# EAGLE library part B6B-EH-A(LF)(SN) (library IGVC-Connector)
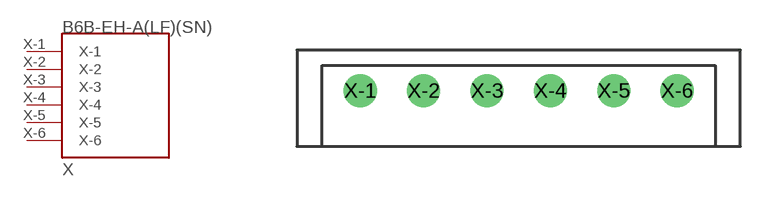
[diagram p0: symbol with the pads of B6BEHALFSN; footprint B6BEHALFSN]

Designator prefix X

## B6B-EH-A(LF)(SN)  [B6BEHALFSN]
X-1  X-1
X-2  X-2
X-3  X-3
X-4  X-4
X-5  X-5
X-6  X-6

## Footprint B6BEHALFSN (pad centres in mm)
drill 0.8: X-1 2.5,2.2; X-2 5,2.2; X-3 7.5,2.2; X-4 10,2.2; X-5 12.5,2.2; X-6 15,2.2